# Altium footprint library WR-WTB.PcbLib: 259 footprints (part 17 of 17)
Each footprint in its own frame and in the unit in brackets; x right, y up, seen from the top. Pads: shape width x height; smd on the part's side, far side on the other; paste and mask are expansions set on the pad; w line width, h text height; cw(c..) or ccw(c..) is an arc to the next point about the centre after c.
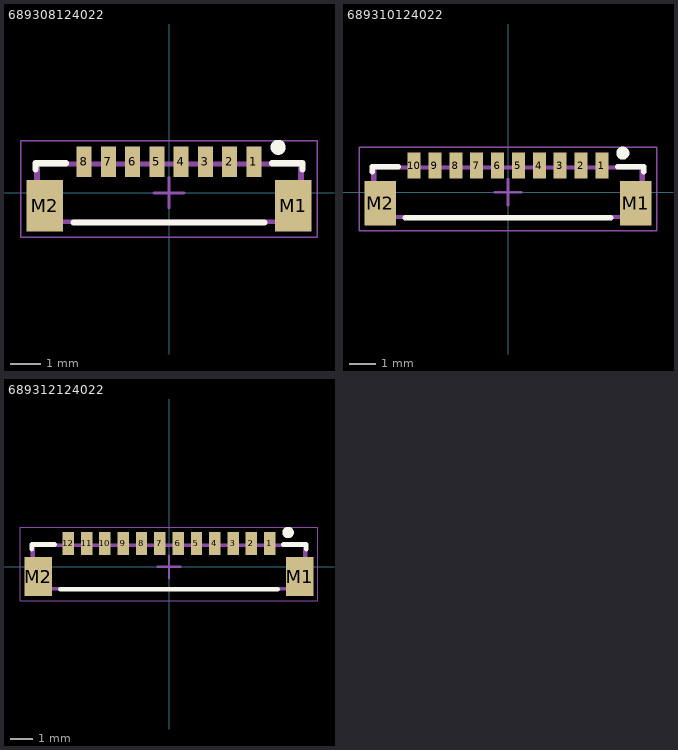
[diagram p16: the footprints below, top view; thin cyan lines are the x and y axes]

## 689308124022 [mm] "SMT Vertical Male Header, pitch 0.8mm, 08p"
height 2.8
pads (10):
  rect 0.5x1 smd: 1(2.8,1.025) 2(2,1.025) 3(1.2,1.025) 4(0.4,1.025) 5(-0.4,1.025) 6(-1.2,1.025) 7(-2,1.025) 8(-2.8,1.025)
  rect 1.2x1.7 smd: M1(4.1,-0.425) M2(-4.1,-0.425)
Top Overlay:
  circle w0.25: c3.6,1.5 r0.125
  lines w0.2: -4.4,0.775 -4.4,0.975 -3.4,0.975 ; -3.15,-0.975 3.15,-0.975 ; 3.4,0.975 4.4,0.975 4.4,0.775
Top Assembly:
  lines w0.1: -4.4,-0.975 -4.4,0.975 4.4,0.975 4.4,-0.975 -4.4,-0.975
Top Designator:
  text ".Designator" at -3.647,-0.357 h1
Top 3D Body:
  lines w0.1: -4.3,-0.925 4.3,-0.925 4.3,0.925 -4.3,0.925 -4.3,-0.925
Top Courtyard:
  lines w0.05: -4.9,-1.475 4.9,-1.475 4.9,1.725 -4.9,1.725 -4.9,-1.475
Top Component Center:
  lines w0.1: -0.5,0 0.5,0 ; 0,-0.5 0,0.5
3D body "689308124022_1.stp": height 3.2, standoff 0.05, extent -4.3,-0.925 4.3,1.725

## 689310124022 [mm] "SMT Vertical Male Header, pitch 0.8mm, 10p"
height 2.8
pads (12):
  rect 0.5x1 smd: 1(3.6,1.025) 2(2.8,1.025) 3(2,1.025) 4(1.2,1.025) 5(0.4,1.025) 6(-0.4,1.025) 7(-1.2,1.025) 8(-2,1.025) 9(-2.8,1.025) 10(-3.6,1.025)
  rect 1.2x1.7 smd: M1(4.9,-0.425) M2(-4.9,-0.425)
Top Overlay:
  circle w0.25: c4.4,1.5 r0.125
  lines w0.2: -5.2,0.775 -5.2,0.975 -4.2,0.975 ; -3.95,-0.975 3.95,-0.975 ; 4.2,0.975 5.2,0.975 5.2,0.775
Top Assembly:
  lines w0.1: -5.2,-0.975 -5.2,0.975 5.2,0.975 5.2,-0.975 -5.2,-0.975
Top Designator:
  text ".Designator" at -3.647,-0.357 h1
Top 3D Body:
  lines w0.1: -5.1,-0.925 5.1,-0.925 5.1,0.925 -5.1,0.925 -5.1,-0.925
Top Courtyard:
  lines w0.05: -5.7,-1.475 5.7,-1.475 5.7,1.725 -5.7,1.725 -5.7,-1.475
Top Component Center:
  lines w0.1: -0.5,0 0.5,0 ; 0,-0.5 0,0.5
3D body "689310124022_1.stp": height 3.2, standoff -0.01, extent -5.1,-0.925 5.1,1.725

## 689312124022 [mm] "SMT Vertical Male Header, pitch 0.8mm, 12p"
height 2.8
pads (14):
  rect 0.5x1 smd: 1(4.4,1.025) 2(3.6,1.025) 3(2.8,1.025) 4(2,1.025) 5(1.2,1.025) 6(0.4,1.025) 7(-0.4,1.025) 8(-1.2,1.025) 9(-2,1.025) 10(-2.8,1.025) 11(-3.6,1.025) 12(-4.4,1.025)
  rect 1.2x1.7 smd: M1(5.7,-0.425) M2(-5.7,-0.425)
Top Overlay:
  circle w0.25: c5.2,1.5 r0.125
  lines w0.2: -6,0.775 -6,0.975 -5,0.975 ; -4.75,-0.975 4.75,-0.975 ; 5,0.975 6,0.975 6,0.775
Top Assembly:
  lines w0.1: -6,-0.975 -6,0.975 6,0.975 6,-0.975 -6,-0.975
Top Designator:
  text ".Designator" at -3.647,-0.357 h1
Top 3D Body:
  lines w0.1: -5.9,-0.925 5.9,-0.925 5.9,0.925 -5.9,0.925 -5.9,-0.925
Top Courtyard:
  lines w0.05: -6.5,-1.475 6.5,-1.475 6.5,1.725 -6.5,1.725 -6.5,-1.475
Top Component Center:
  lines w0.1: -0.5,0 0.5,0 ; 0,-0.5 0,0.5
3D body "689312124022_1.stp": height 3.2, standoff -0.01, extent -5.9,-0.925 5.9,1.725